# Altium integrated library L293B.IntLib: 1 symbol
Pins are listed as number, name and electrical type; pins without a type are passive.

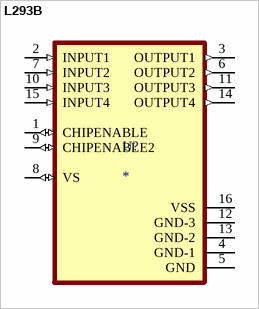
[diagram p0: symbol L293B]

## L293B
designator U?
Bipolar Motor Driver Parallel 16-DIP; MP: L293B; MF: STMicroelectronics; SnapEDA_Link: https://www.snapeda.com/parts/L293B/STMicroelectronics/view-part/44259/?ref=snap; Availability: Good; Price: None; Purchase-URL: https://pricing.snapeda.com/search/part/L293B/?ref=eda; Value: *; Check_prices: https://www.snapeda.com/parts/L293B/STMicroelectronics/view-part/44259/?ref=eda; Package: DIP-16 STMicroelectronics
footprint DIP254P787X546-16
pins: 1 CHIPENABLE (io), 2 INPUT1 (in), 3 OUTPUT1 (out), 4 GND-1 (power), 5 GND (power), 6 OUTPUT2 (out), 7 INPUT2 (in), 8 VS (io), 9 CHIPENABLE2 (io), 10 INPUT3 (in), 11 OUTPUT3 (out), 12 GND-3 (power), 13 GND-2 (power), 14 OUTPUT4 (out), 15 INPUT4 (in), 16 VSS (power)